# EAGLE library part NCV7471BDQ5R2G (library Driver_Transceiver ICs)
IC TRANSCEIVER 36SSOP Manufacturer's datasheet <https://www.onsemi.com/pub/Collateral/NCV7471B-D.PDF>
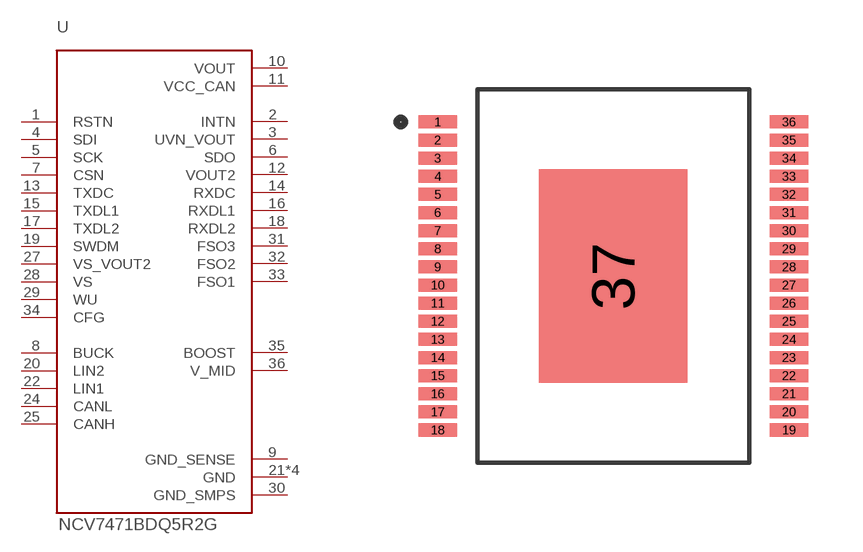
[diagram p5: symbol with the pads of SSOP-36; footprint SSOP-36]

Designator prefix U

## NCV7471BDQ5R2G (CREATED_BY: PCBLayout.com; DIGIKEY_PARTNO: NCV7471BDQ5R2GOSTR-ND; MANUFACTURER: ON Semiconductor; MPN: NCV7471BDQ5R2G; PACKAGE: SSOP-36)  [SSOP-36]
1  RSTN  in
2  INTN  out
3  UVN_VOUT  out
4  SDI  in
5  SCK  in
6  SDO  out
7  CSN  in
8  BUCK
9  GND_SENSE  pwr
10  VOUT  pwr
11  VCC_CAN  pwr
12  VOUT2  out
13  TXDC  in
14  RXDC  out
15  TXDL1  in
16  RXDL1  out
17  TXDL2  in
18  RXDL2  out
19  SWDM  in
20  LIN2
21  GND  pwr
22  LIN1
23  GND  pwr
24  CANL
25  CANH
26  GND  pwr
27  VS_VOUT2  in
28  VS  in
29  WU  in
30  GND_SMPS  pwr
31  FSO3  out
32  FSO2  out
33  FSO1  out
34  CFG  in
35  BOOST
36  V_MID
37  GND  pwr

## Footprint SSOP-36 (pad centres in mm)
smd 1.06 x 0.36: 1 -4.85,4.25; 2 -4.85,3.75; 3 -4.85,3.25; 4 -4.85,2.75; 5 -4.85,2.25; 6 -4.85,1.75; 7 -4.85,1.25; 8 -4.85,0.75; 9 -4.85,0.25; 10 -4.85,-0.25; 11 -4.85,-0.75; 12 -4.85,-1.25; 13 -4.85,-1.75; 14 -4.85,-2.25; 15 -4.85,-2.75; 16 -4.85,-3.25; 17 -4.85,-3.75; 18 -4.85,-4.25; 19 4.85,-4.25; 20 4.85,-3.75; 21 4.85,-3.25; 22 4.85,-2.75; 23 4.85,-2.25; 24 4.85,-1.75; 25 4.85,-1.25; 26 4.85,-0.75; 27 4.85,-0.25; 28 4.85,0.25; 29 4.85,0.75; 30 4.85,1.25; 31 4.85,1.75; 32 4.85,2.25; 33 4.85,2.75; 34 4.85,3.25; 35 4.85,3.75; 36 4.85,4.25
smd 4.1 x 5.9: 37 0,0